# EAGLE library part SI8645 (library ic-Silicon)
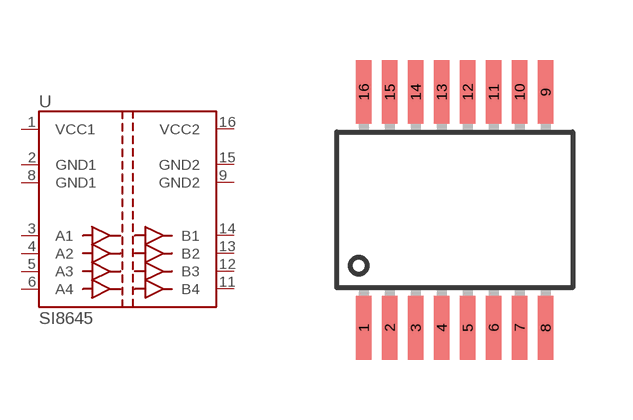
[diagram p1: symbol with the pads of SSOP16; footprint SSOP16]

Designator prefix U

## SI8645BA, SI8645BC, SI8645BD, SI8645EA, SI8645EC, SI8645ED  [SSOP16]
1  VCC1
2  GND1
3  A1
4  A2
5  A3
6  A4
8  GND1
9  GND2
11  B4
12  B3
13  B2
14  B1
15  GND2
16  VCC2

## Footprint SSOP16 (pad centres in mm)
smd 0.381 x 1.6: 1 -2.275,-2.95; 2 -1.625,-2.95; 3 -0.975,-2.95; 4 -0.325,-2.95; 5 0.325,-2.95; 6 0.975,-2.95; 7 1.625,-2.95; 8 2.275,-2.95; 9 2.275,2.95; 10 1.625,2.95; 11 0.975,2.95; 12 0.325,2.95; 13 -0.325,2.95; 14 -0.975,2.95; 15 -1.625,2.95; 16 -2.275,2.95